# Altium footprint library 2012[0805].PcbLib: 12 footprints
Each footprint in its own frame and in the unit in brackets; x right, y up, seen from the top. Pads: shape width x height; smd on the part's side, far side on the other; paste and mask are expansions set on the pad; w line width, h text height; cw(c..) or ccw(c..) is an arc to the next point about the centre after c.
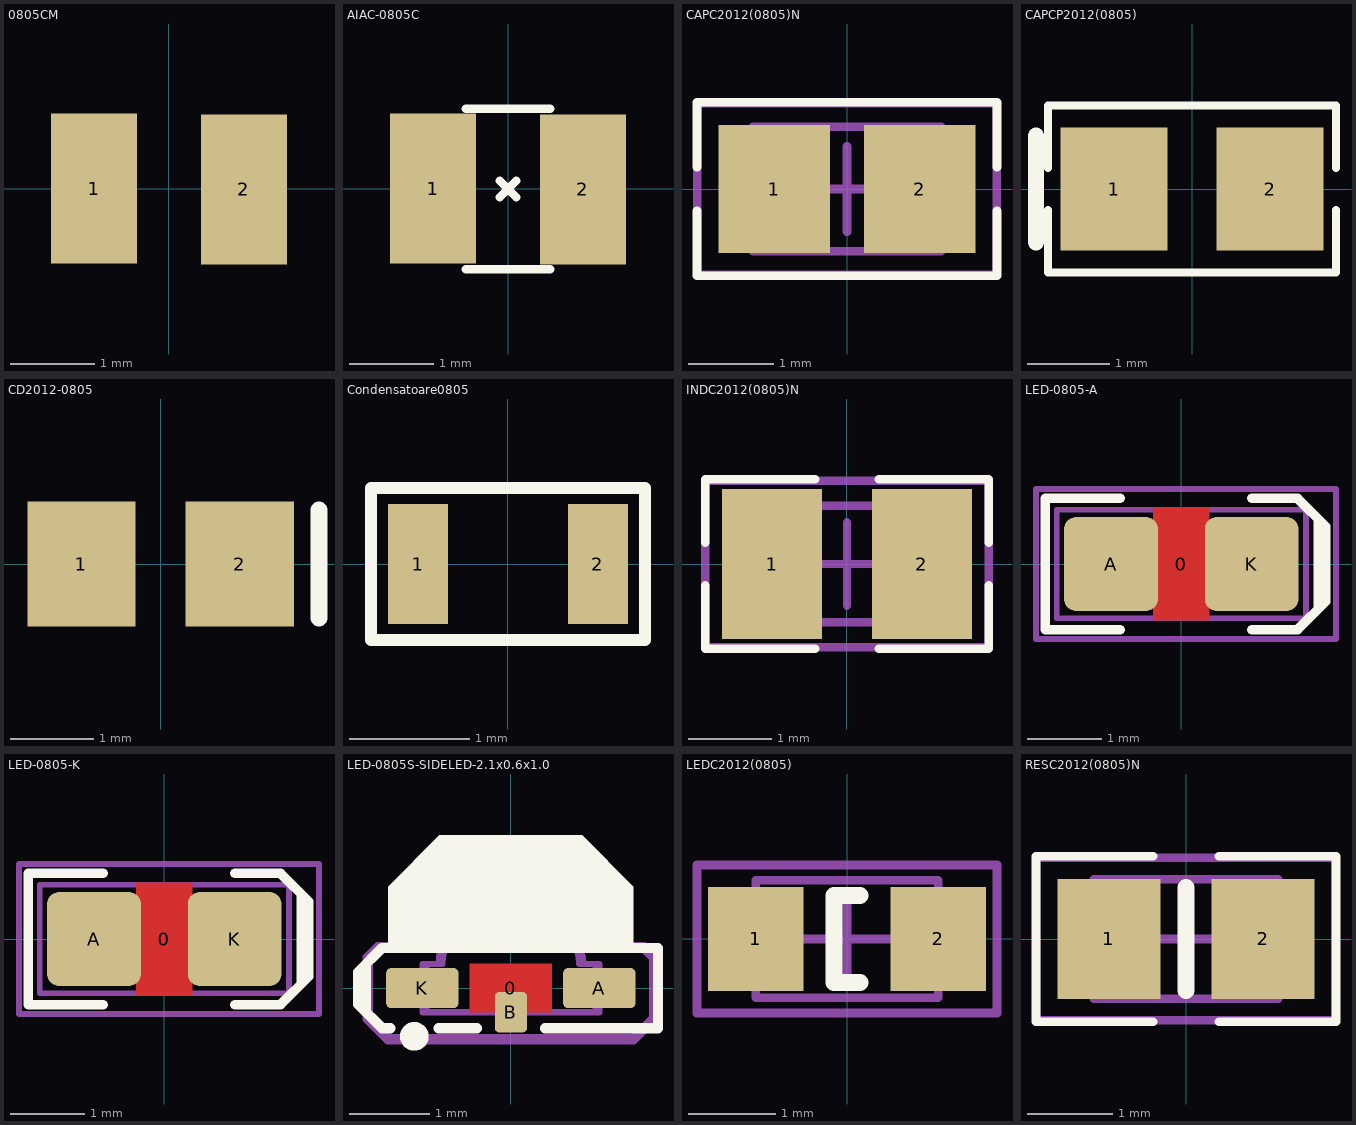
[diagram p0: the footprints below, top view; thin cyan lines are the x and y axes]

## 0805CM [mm]
height 1.58
pads (2):
  rect 1.02x1.78 smd: 1(-0.89,0.004) 2(0.89,-0.004)
3D body: height 1.58, standoff 0, extent -1.145,-0.89 1.145,0.89

## AIAC-0805C [mm]
height 2.1
pads (2):
  rect 1.02x1.78 smd: 1(-0.89,0.004) 2(0.89,-0.004)
Top Overlay:
  lines w0.1: -0.5,-0.95 0.5,-0.95 ; -0.5,0.95 0.5,0.95 ; -0.1,-0.1 0.1,0.1 ; -0.1,0.1 0.1,-0.1
3D body: height 2.1, standoff 0, extent -1.425,-0.9 1.425,0.9

## CAPC2012(0805)N [mm] "Chip Capacitor, Body 2.0x1.3mm, IPC Medium Density"
height 1.1
pads (2):
  rect 1.3x1.5 smd: 1(-0.85,0) 2(0.85,0)
Top Overlay:
  lines w0.1: -1.753,-0.254 -1.753,-1.016 1.753,-1.016 1.753,-0.254 ; -1.753,0.254 -1.753,1.016 1.753,1.016 1.753,0.254
Mechanical 13:
  lines w0.1: -1.1,-0.725 -1.1,0.725 1.1,0.725 1.1,-0.725 -1.1,-0.725
Mechanical 15:
  lines w0.1: -0.5,0 0.5,0 ; 0,-0.5 0,0.5 ; -1.75,-1 -1.75,1 1.75,1 1.75,-1 -1.75,-1
3D body "SW3dPS-0805 SMD Capacitor.STEP": height 0.78, standoff 0, extent -1.016,-0.635 0.984,0.615

## CAPCP2012(0805) [mm] "Chip Capacitor; Body 2.0 x 1.2 mm (LxW typ)"
height 1.3
pads (2):
  rect 1.3x1.5 smd: 1(-0.95,0) 2(0.95,0)
Top Overlay:
  lines w0.1: -1.753,-0.254 -1.753,-1.016 1.753,-1.016 1.753,-0.254 ; -1.753,0.254 -1.753,1.016 1.753,1.016 1.753,0.254
  lines w0.2: -1.9,-0.65 -1.9,0.65

## CD2012-0805 [mm] "Chip Diode; Body 2.0 x 1.3 mm (LxW typ)"
height 1.1
pads (2):
  rect 1.3x1.5 smd: 1(-0.95,0) 2(0.95,0)
Top Overlay:
  lines w0.2: 1.9,-0.65 1.9,0.65

## Condensatoare0805 [mm]
pads (2):
  rect 0.5x1 smd: 1(-0.75,0) 2(0.75,0)
Top Overlay:
  lines w0.1: -1.143,-0.635 -1.143,0.635 1.143,0.635 1.143,-0.635 -1.143,-0.635
3D body "CAPC1508X65N EIA 0603.step": height 0.65, standoff 0, extent -0.75,-0.4 0.75,0.4

## INDC2012(0805)N [mm] "Chip Inductor, Body 2.0x1.2mm, IPC Medium Density"
height 1.1
pads (2):
  rect 1.2x1.8 smd: 1(-0.9,0) 2(0.9,0)
Top Overlay:
  lines w0.1: -1.702,-0.254 -1.702,-1.016 -0.381,-1.016 ; -1.702,0.254 -1.702,1.016 -0.381,1.016 ; 0.381,-1.016 1.702,-1.016 1.702,-0.254 ; 0.381,1.016 1.702,1.016 1.702,0.254
Mechanical 13:
  lines w0.1: -1.1,-0.7 -1.1,0.7 1.1,0.7 1.1,-0.7 -1.1,-0.7
Mechanical 15:
  lines w0.1: -0.5,0 0.5,0 ; 0,-0.5 0,0.5 ; -1.702,-1 -1.702,1 1.702,1 1.702,-1 -1.702,-1
3D body: height 1.1, standoff 0, extent -1.1,-0.7 1.1,0.7

## LED-0805-A [mil]
height 31.5
pads (3):
  round 20 on Mech15: 0(0,0)
  rrect25% 50x50 smd: A(-37.5,0) K(37.5,0)
Top Layer:
  pour cut-out: -15,30 15,30 15,-30 -15,-30
Top Overlay:
  lines w5: -32.5,-35 -72.5,-35 -72.5,35 -32.5,35 ; 37.5,-35 62,-35 77,-20 77,20 62,35 37.5,35 ; 73,-24 73,24
Mechanical 13:
  lines w3: -66.5,-29 -66.5,29 66.5,29 66.5,-29 -66.5,-29
Mechanical 15:
  lines w3: -77.5,-40 -77.5,40 82.5,40 82.5,-40 -77.5,-40
3D body: height 3.94, standoff 0, extent -11.81,-15.75 11.81,15.75
3D body: height 3.94, standoff 0, extent -39.37,-24.61 39.37,24.61
3D body: height 11.81, standoff 3.94, extent -39.37,-24.61 39.37,24.61
3D body: height 31.5, standoff 11.81, extent -26.49,-24.61 28.65,24.6

## LED-0805-K [mil]
height 31.5
pads (3):
  round 20 on Mech15: 0(0,0)
  rrect25% 50x50 smd: A(-37.5,0) K(37.5,0)
Top Layer:
  pour cut-out: -15,30 15,30 15,-30 -15,-30
Top Overlay:
  lines w5: -32.5,-35 -72.5,-35 -72.5,35 -32.5,35 ; 37.5,-35 62,-35 77,-20 77,20 62,35 37.5,35 ; 73,-24 73,24
Mechanical 13:
  lines w3: -66.5,-29 66.5,-29 66.5,29 -66.5,29 -66.5,-29
Mechanical 15:
  lines w3: -77.5,-40 82.5,-40 82.5,40 -77.5,40 -77.5,-40
3D body: height 31.5, standoff 11.81, extent -28.65,-24.6 26.49,24.61
3D body: height 11.81, standoff 3.94, extent -39.37,-24.61 39.37,24.61
3D body: height 3.94, standoff 0, extent -39.37,-24.61 39.37,24.61
3D body: height 3.94, standoff 0, extent -11.81,-15.75 11.81,15.75

## LED-0805S-SIDELED-2.1x0.6x1.0 [mm] "Lite-On Inc PLCC Side LED"
height 0.8
pads (4):
  round 0.508 on Mech15: 0(0,0)
  rrect25% 0.9x0.5 smd: A(1.1,0) K(-1.1,0)
  rrect25% 0.4x0.5 smd: B(0,-0.3)
Top Layer:
  pour cut-out: -0.508,0.3 0.508,0.3 0.508,-0.3 -0.508,-0.3
Top Overlay:
  circle w0.203: c-1.2,-0.6 r0.076
  region: -1.524,0.5 1.524,0.5 1.524,1.262 0.889,1.897 -0.889,1.897 -1.524,1.262
  lines w0.127: -1.8,-0.3 -1.8,0.3 ; -1.5,-0.5 -1.6,-0.5 -1.9,-0.2 -1.9,0.2 -1.6,0.5 1.829,0.5 1.829,-0.5 0.425,-0.5 ; -0.9,-0.5 -0.425,-0.5
Mechanical 13:
  lines w0.076: -1.05,-0.3 1.05,-0.3 1.05,0.3 0.85,0.3 ccw(c0.3,0.3) 0.3,0.85 -0.3,0.85 ccw(c-0.3,0.3) -0.85,0.3 -1.05,0.3 -1.05,-0.3
Mechanical 15:
  lines w0.076: -1.1,-0.3 -1.1,0.3 -0.9,0.3 cw(c-0.35,0.3) -0.35,0.85 0.35,0.85 cw(c0.35,0.3) 0.9,0.3 1.1,0.3 1.1,-0.3 -1.1,-0.3
  lines w0.127: -1.778,-0.381 -1.524,-0.635 1.524,-0.635 1.778,-0.381 1.778,0.381 1.651,0.508 1.27,0.508 0.762,1.016 -0.762,1.016 -1.27,0.508 -1.651,0.508 -1.778,0.381 -1.778,-0.381
3D body "LED_SIDELED-2.1x0.6x1.0 WHITE maxtol.STEP": height 0.7, standoff 0, extent -1.1,-0.3 1.1,0.8

## LEDC2012(0805) [mm] "Chip LED, 2-Leads, Body 2.0x1.3mm, IPC Medium Density"
height 0.8
pads (2):
  rect 1.1x1.2 smd: 1(-1.05,0) 2(1.05,0)
Top Overlay:
  lines w0.2: 0.15,-0.5 -0.15,-0.5 -0.15,0.5 0.15,0.5
Mechanical 13:
  lines w0.1: -1.05,-0.675 1.05,-0.675 1.05,0.675 -1.05,0.675 -1.05,-0.675
Mechanical 15:
  lines w0.1: -0.5,0 0.5,0 ; 0,-0.5 0,0.5 ; -1.725,-0.85 1.725,-0.85 1.725,0.85 -1.725,0.85 -1.725,-0.85
3D body "WL-SMCW_0805_LED.stp": height 0.68, standoff -0.02, extent -1,-0.625 1,0.625

## RESC2012(0805)N [mm] "Chip Resistor, Body 2.0x1.3mm, IPC Medium Density"
height 0.65
pads (2):
  rect 1.2x1.4 smd: 1(-0.9,0) 2(0.9,0)
Top Overlay:
  lines w0.1: -0.381,-0.965 -1.753,-0.965 -1.753,0.965 -0.381,0.965 ; 0.381,-0.965 1.753,-0.965 1.753,0.965 0.381,0.965
  lines w0.2: 0,-0.6 0,0.6
Mechanical 13:
  lines w0.1: -1.075,-0.7 1.075,-0.7 1.075,0.7 -1.075,0.7 -1.075,-0.7
Mechanical 15:
  lines w0.1: -0.5,0 0.5,0 ; 0,-0.5 0,0.5 ; -1.75,-0.95 1.75,-0.95 1.75,0.95 -1.75,0.95 -1.75,-0.95
3D body "SW3dPS-0805 SMD Resistor.STEP": height 0.78, standoff 0, extent -1,-0.615 1,0.635